# Altium footprint library JS202011SCQN.PcbLib: 1 footprints
Each footprint in its own frame and in the unit in brackets; x right, y up, seen from the top. Pads: shape width x height; smd on the part's side, far side on the other; paste and mask are expansions set on the pad; w line width, h text height; cw(c..) or ccw(c..) is an arc to the next point about the centre after c.
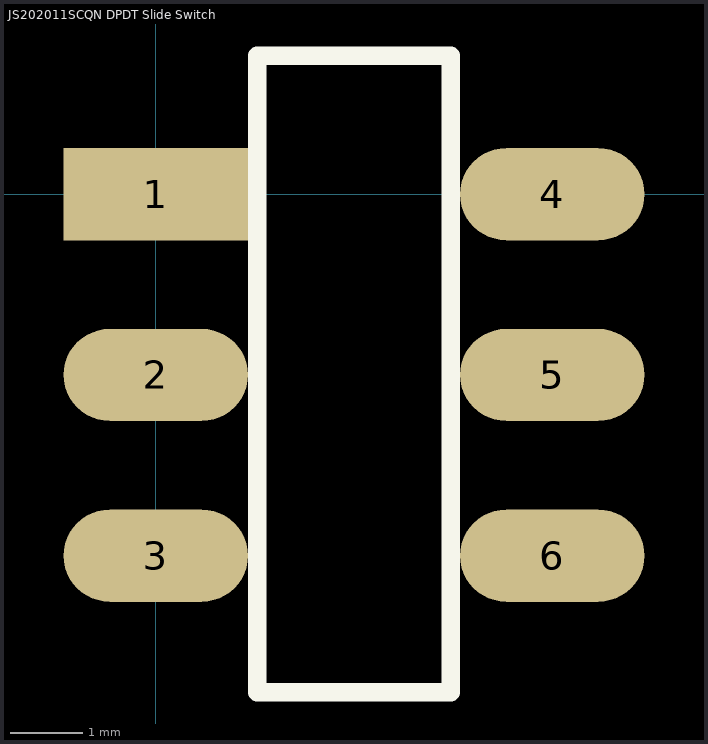
[diagram p0: the footprint, top view; thin cyan lines are the x and y axes]

## JS202011SCQN DPDT Slide Switch [mil]
pads (6):
  rect 100x50 smd: 1(0,0)
  oval 100x50 smd: 2(0,-98) 3(0,-196) 4(215,0) 5(215,-98) 6(215,-196)
Top Overlay:
  lines w10: 55,-270 160,-270 160,75 55,75 55,-270